# Altium schematic symbol library MAKO_SCH_LIB.SchLib: 34 symbols
Pins are listed as number, name and electrical type; pins without a type are passive.

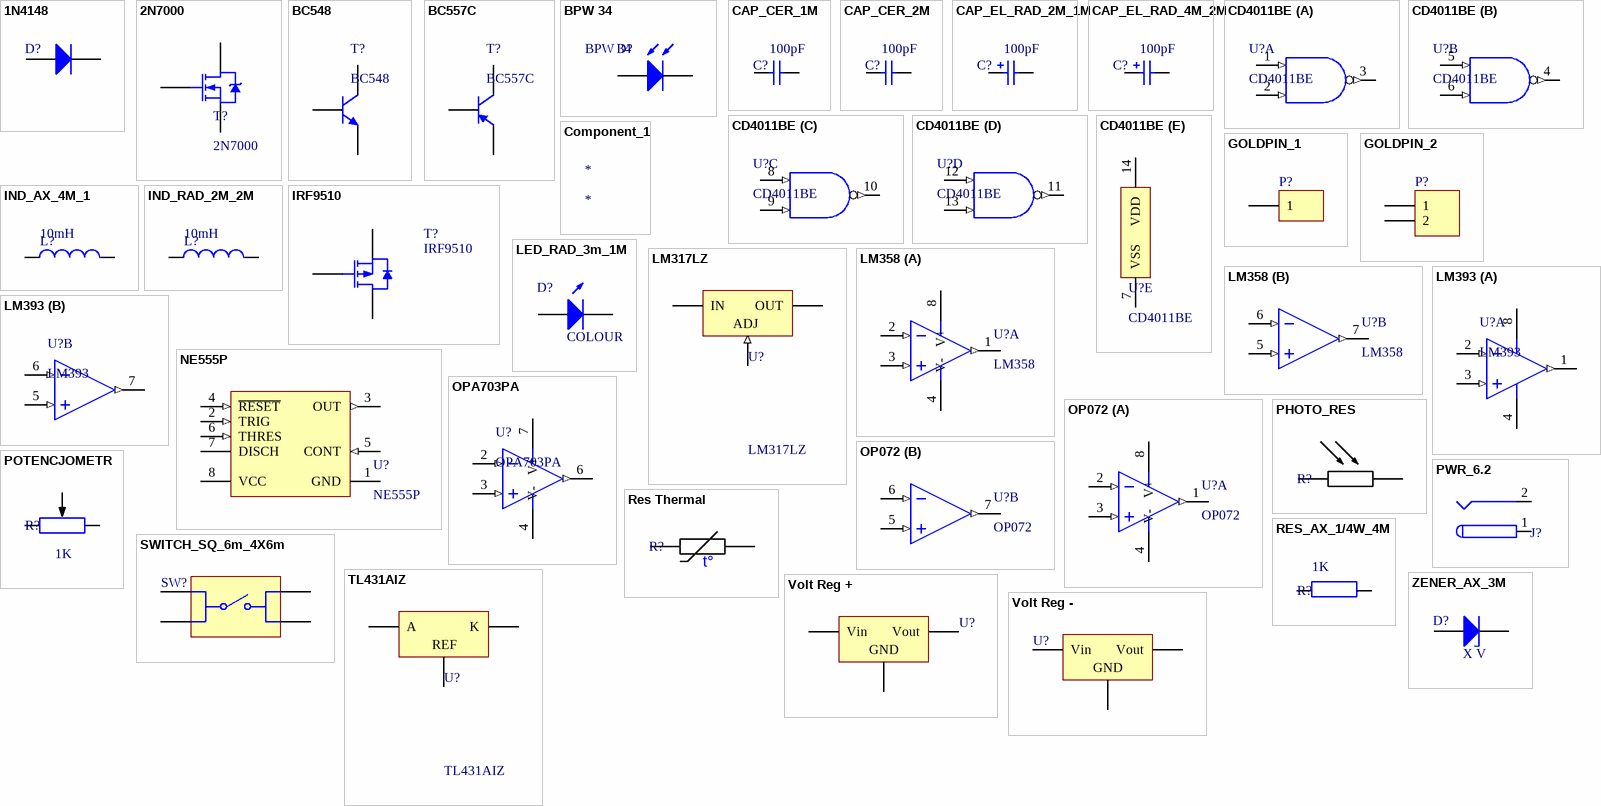
[diagram p0: symbols 1N4148 to ZENER_AX_3M]

## 1N4148
designator D?
High Conductance Fast Diode; Published: 8-Jun-2000; LatestRevisionDate: 17-Jul-2002; LatestRevisionNote: Re-released for DXP Platform.; DatasheetVersion: 1997; PackageReference: DO-35; Publisher: Altium Limited; PackageDescription: Diode, Axial; Body 3.8 x 1.9 mm (LxDia. max), Lead Dia. 0.53 mm (max); Code_JEDEC: DO-204-AH; ComponentLink1Description: Manufacturer Link; ComponentLink1URL: http://www.fairchildsemi.com/; ComponentLink2Description: Datasheet; ComponentLink2URL: http://www.fairchildsemi.com/ds/1N%2F1N4148.pdf
footprint DO-35 (Diode, Axial; Body 3.8 x 1.9 mm (LxDia. max), Lead Dia. 0.53 mm (max))
simulation model 1N4148 (DIODE)
signal-integrity model 1N4148
pins: 1 A, 2 K

## 2N7000
designator T?
Small Signal MOSFET, 200 mA, 60 V, N-Channel, 3-Pin TO-92, Bulk Box; Manufacturer: On Semiconductor; Ciss Typ (pF): 60; VGS(th) Max (V): 3; Crss Typ (pF): 5; Channel Polarity: N Channel; VGS Max (V): 20; Configuration: Single; PD Max (W): 0.35; Coss Typ (pF): 25; ID Max (A): 0.2; PackageVersion: Rev. AM; ComponentLink3URL: http://www.onsemi.cn/pub_link/Collateral/2N6426-D.PDF; ComponentLink2URL: http://www.onsemi.com/pub_link/Collateral/2N7000-D.PDF; DatasheetVersion: Rev. 8; Mounting Technology: Through Hole; V(BR)DSS Min (V): 60; PartNumber: 2N7000; PackageDescription: 3-Pin Transistor Outline, Body 4.825 x 3.685 mm, Pitch 1.27 mm; ComponentLink2Description: Datasheet; ComponentLink1URL: http://www.onsemi.com/; PackageReference: TO-92-3-29-11_AM_SL; Packing: Bulk Box; ComponentLink1Description: Manufacturer URL; Package Type: TO-92; ComponentLink3Description: Package Specification
footprint TO-92A (TO, Flat Index; 3 In-Line, Axial Leads; Body Dia. 4.5mm; Leads 0.51 x 0.48 mm (max))
pins: 1 S, 2 G, 3 D

## BC548
designator T?
Amplifier Transistor, NPN Silicon, 3-Pin TO-92, Bulk Box; Manufacturer: On Semiconductor; PartNumber: BC548B; IC Continuous (A): 0.1; fT Min (MHz): 150; Mounting Technology: Through Hole; ComponentLink3Description: Package Specification; Polarity: NPN; ComponentLink3URL: http://www.onsemi.cn/pub_link/Collateral/2N6426-D.PDF; ComponentLink2Description: Datasheet; ComponentLink1Description: Manufacturer URL; ComponentLink2URL: http://www.onsemi.com/pub_link/Collateral/BC546-D.PDF; PackageReference: TO-92-3-29-11_AM_SL; DatasheetVersion: Rev. 7; PackageDescription: 3-Pin Transistor Outline, Body 4.825 x 3.685 mm, Pitch 1.27 mm; PackageVersion: Rev. AM; Packing: Bulk Box; RoHS: FALSE; ComponentLink1URL: http://www.onsemi.com/
footprint TO-92W (TO, 3-Leads, Body Dia 4.7mm, Pitch 2.6mm)
pins: 1 C, 2 B, 3 E

## BC557C
designator T?
Amplifier Transistor, PNP Silicon, 3-Pin TO-92, Pb-Free, Bulk Box; Manufacturer: On Semiconductor; PartNumber: BC557CG; IC Continuous (A): -0.1; RoHS: TRUE; DatasheetVersion: Rev. 3; ComponentLink2Description: Datasheet; Packing: Bulk Box; PackageReference: TO-92-3-29-11_AM_SL; ComponentLink3URL: http://www.onsemi.cn/pub_link/Collateral/2N6426-D.PDF; ComponentLink2URL: http://www.onsemi.com/pub_link/Collateral/BC556B-D.PDF; PackageDescription: 3-Pin Transistor Outline, Body 4.825 x 3.685 mm, Pitch 1.27 mm; PackageVersion: Rev. AM; ComponentLink3Description: Package Specification; ComponentLink1URL: http://www.onsemi.com/; ComponentLink1Description: Manufacturer URL; Polarity: PNP; Mounting Technology: Through Hole
footprint ONSC-TO-92-3-29-11 (TO, 3-Leads, Body Dia 4.7mm, Pitch 1.27mm)
footprint TO-92W (TO, 3-Leads, Body Dia 4.7mm, Pitch 2.6mm)
pins: 1 C, 2 B, 3 E

## BPW 34
designator D?
footprint SQ_4m_2M
pins: 1 A, 2 K

## CAP_CER_1M
designator C?  value 100pF
Capacitor; Published: 8-Jun-2000; LatestRevisionDate: 17-Jul-2002; LatestRevisionNote: Re-released for DXP Platform.; PackageReference: RAD-0.3; Publisher: Altium Limited; PackageDescription: Radial Cap, Thru-Hole; 2 Leads; 0.3 in Pin Spacing
simulation model CAP (Capacitor)
signal-integrity model Cap
footprint CAP_CER_1M (Footprint not found)
pins: 1, 2

## CAP_CER_2M
designator C?  value 100pF
Capacitor; Published: 8-Jun-2000; LatestRevisionDate: 17-Jul-2002; LatestRevisionNote: Re-released for DXP Platform.; PackageReference: RAD-0.3; Publisher: Altium Limited; PackageDescription: Radial Cap, Thru-Hole; 2 Leads; 0.3 in Pin Spacing
simulation model CAP (Capacitor)
signal-integrity model Cap
footprint CAP_CER_2M (Footprint not found)
pins: 1, 2

## CAP_EL_RAD_2M_1M
designator C?  value 100pF
Polarized Capacitor (Radial); PackageDescription: Polarized Capacitor (Radial); 2 Leads
footprint CAP_RAD_2M_1M (Capacitor (Radial); 2 Leads)
pins: 1, 2
1 alternate drawing of the same symbol

## CAP_EL_RAD_4M_2M
designator C?  value 100pF
Polarized Capacitor (Radial); PackageDescription: Polarized Capacitor (Radial); 2 Leads
footprint CAP_RAD_4M_2M (Capacitor (Radial); 2 Leads)
pins: 1, 2
1 alternate drawing of the same symbol

## CD4011BE
designator U?
CMOS Quad 2-Input NAND Gate, N0014A, TUBE; Bits(#): 4; Voltage(Nom)(V): 10; Output Drive (IOL/IOH)(Max)(mA): 1.5/-1.5; ICC @ Nom Voltage(Max)(mA): 0.015; Technology Family: CD4000; VCC(Max)(V): 18; VCC(Min)(V): 3; F @ Nom Voltage(Max)(Mhz): 8; Output Type: CMOS; Input Type: CMOS; Operating Temperature Range(C): -55 to 125; Generic Part Number: CD4011B; DatasheetVersion: SCHS021D
footprint DIL14 (DIP, 14-Leads, Body 19.7x6.6mm, Pitch 2.54mm)
part A pins: 1 A (in), 2 B (in), 3 J (out)
part B pins: 4 K (out), 5 C (in), 6 D (in)
part C pins: 8 E (in), 9 F (in), 10 L (out)
part D pins: 11 M (out), 12 G (in), 13 H (in)
part E pins: 7 VSS (power), 14 VDD (power)

## Component_1
designator *

## GOLDPIN_1
designator P?
Header, 1-Pin; LatestRevisionDate: 17-Jul-2002; LatestRevisionNote: Re-released for DXP Platform.; Publisher: Altium Limited
signal-integrity model Connector
footprint HDR1X1 (Connector; Header; 1Position)
pins: 1

## GOLDPIN_2
designator P?
Header, 2-Pin; LatestRevisionDate: 17-Jul-2002; LatestRevisionNote: Re-released for DXP Platform.; Publisher: Altium Limited
footprint HDR1X2 (Connector; Header; 2 Position)
signal-integrity model Connector
pins: 1, 2

## IND_AX_4M_1
designator L?  value 10mH
Inductor
footprint AX_1/4W_4M (Axial Device, Thru-Hole; 2 Leads; 0.4 in Pin Spacing)
pins: 1, 2

## IND_RAD_2M_2M
designator L?  value 10mH
Inductor
footprint AX_1/4W_4M (Axial Device, Thru-Hole; 2 Leads; 0.4 in Pin Spacing)
pins: 1, 2

## IRF9510
designator T?
P-Channel Enhancement Mode Vertical DMOS FET,; ComponentLink3URL: http://www.diodes.com/_files/packages/E-Line.jpg; ComponentLink1URL: http://www.diodes.com/; ComponentLink1Description: Manufacturer URL; ComponentLink2Description: Datasheet; ComponentLink2URL: http://www.diodes.com/_files/datasheets/ZVP3306A.pdf; ComponentLink3Description: Package Specification
footprint TO-220AB (TO, Thru-Hole, Vertical, Heatsink Mounted; 3 In-Line Leads; Pitch 2.54 mm)
pins: 1 S, 2 D, 3 G

## LED_RAD_3m_1M
designator D?
Typical INFRARED GaAs LED; PackageDescription: LED; 2 Leads; COLOUR: COLOUR
footprint LED_RAD_3m_1M (Footprint not found)
pins: 1 A, 2 K

## LM317LZ
designator U?
3-Terminal Adjustable Regulator, 3-pin TO-92; ComponentLink1URL: http://www.national.com/ds/LM/LM317L.pdf; ComponentLink3URL: http://www.national.com/packaging/folders/z03a.html; ComponentLink2Description: LM317L Web Page; ComponentLink3Description: Z03A Package Page; ComponentLink2URL: http://www.national.com/pf/LM/LM317L.html; PackageDescription: TO-92, Molded, 3 Lead; ComponentLink1Description: LM317L Datasheet
footprint TO-92A (TO, Flat Index; 3 In-Line, Axial Leads; Body Dia. 4.5mm; Leads 0.51 x 0.48 mm (max))
pins: 1 ADJ (in), 2 OUT (power), 3 IN (power)

## LM358
designator U?
Low Power Dual Operational Amplifier, 8-pin MDIP, Pb-Free; PinCount: 8; ComponentLink1URL: http://www.ti.com/general/docs/lit/getliterature.tsp?genericPartNumber=LM358-N&fileType=pdf; ComponentLink1Description: Datasheet URL
footprint DIL8 (DIP, 8-Leads, Body 10.15x6.6mm, Pitch 2.54mm)
part A pins: 1 OUTA (out), 2 INA- (in), 3 INA+ (in), 4 V-, 8 V+
part B pins: 5 INB+ (in), 6 INB- (in), 7 OUTB (out)

## LM393
designator U?
Low Power Low Offset Voltage Dual Comparator, 8-pin MDIP; Manufacturer: Texas Instruments; CompType: Amplifiers; ComponentLink1URL: http://www.ti.com/general/docs/lit/getliterature.tsp?genericPartNumber=LM393-N&fileType=pdf; ComponentLink1Description: Datasheet URL; PinCount: 8
footprint DIL8 (DIP, 8-Leads, Body 10.15x6.6mm, Pitch 2.54mm)
part A pins: 1 OUTA (out), 2 INA- (in), 3 INA+ (in), 4 VCC, 8 GND
part B pins: 5 INB+ (in), 6 INB- (in), 7 OUTB (out)

## NE555P
designator U?
Precision Timer, 4.5 to 16 V, 0 to 70 degC, 8-Pin DIP, Pb-Free, Tube; Maximum High Level Output Current: -200mA; Number of Internal Timers: 1; Operating Supply Voltage: 5|9|12|15V; Maximum Low Level Output Current: 200mA; Manufacturer URL: http://www.ti.com/; Package Description: 8-Pin Double In-line Package, Body 9.59 x 6.35 mm, Pitch 2.54 mm; Package URL: http://www.ti.com/lit/ml/mpdi001b/mpdi001b.pdf; Datasheet URL: http://www.ti.com/general/docs/lit/getliterature.tsp?genericPartNumber=NE555&fileType=pdf
footprint DIL8 (DIP, 8-Leads, Body 10.15x6.6mm, Pitch 2.54mm)
pins: 1 GND (power), 2 TRIG (in), 3 OUT (out), 4 ~{RESET} (in), 5 CONT (in), 6 THRES (in), 7 DISCH (oc), 8 VCC (power)

## OP072
designator U?
Low Power Dual Operational Amplifier, 8-pin MDIP, Pb-Free; PinCount: 8; ComponentLink1URL: http://www.ti.com/general/docs/lit/getliterature.tsp?genericPartNumber=LM358-N&fileType=pdf; ComponentLink1Description: Datasheet URL
footprint DIL8 (DIP, 8-Leads, Body 10.15x6.6mm, Pitch 2.54mm)
part A pins: 1 OUTA (out), 2 INA- (in), 3 INA+ (in), 4 V-, 8 V+
part B pins: 5 INB+ (in), 6 INB- (in), 7 OUTB (out)

## OPA703PA
designator U?
CMOS, Rail-to-Rail I/O, Operational Amplifier, 4 to 12 V, -40 to 85 degC, 8-pin DIP (P8), Green (RoHS & no Sb/Br); GBW(Typ)(MHz): 1; IIB(Max)(pA): 10; Total Supply Voltage(Max)(+5V is 5, +/-5V is 10): 12; Total Supply Voltage(Min)(+5V is 5, +/-5V is 10): 4; Slew Rate(Typ)(V/us): 0.6; Mounting Technology: Through Hole; ComponentLink3Description: Package Specification; ComponentLink3URL: http://www.ti.com/litv/pdf/mpdi001b; ComponentLink2Description: Datasheet; ComponentLink1Description: Manufacturer URL; ComponentLink1URL: http://www.ti.com/; ComponentLink2URL: http://www.ti.com/lit/ds/symlink/opa703.pdf
footprint DIL8 (DIP, 8-Leads, Body 10.15x6.6mm, Pitch 2.54mm)
pins: 2 IN- (in), 3 IN+ (in), 4 V- (power), 6 OUT (out), 7 V+ (power)

## PHOTO_RES
designator R?
PHOTORESISTOR
footprint RAD_2M_1M
pins: 1, 2

## POTENCJOMETR
designator R?  value 1K
Resistor; Published: 8-Jun-2000; LatestRevisionDate: 17-Jul-2002; LatestRevisionNote: Re-released for DXP Platform.; PackageReference: AXIAL-0.4; Publisher: Altium Limited; PackageDescription: Axial Device, Thru-Hole; 2 Leads; 0.4 in Pin Spacing
simulation model RESISTOR (Resistor)
signal-integrity model Res
footprint SQ_4M_TR_2M (Footprint not found)
footprint SQ_4M_TR_2M (Footprint not found)
pins: 1, 2, 3

## PWR_6.2
designator J?  (value not drawn)
Low Voltage Power Supply Connector; ComponentLink1Description: Manufacturer Link; ComponentLink1URL: http://domino.kycon.com/internet/Products.html
footprint KLD-0202 (DC Power Jack, 2.5mm, KLD Series, PCB Mount)
signal-integrity model Connector
footprint PWR6.2 (Footprint not found)
footprint PWR_6.2 (Footprint not found)
pins: 1 (power), 1A (power), 1B (power), 2 (power), 2A (power), 2B (power)

## Res Thermal
designator R?
Thermistor
footprint DISC_2M_1M (Radial Cap, Thru-Hole; 2 Leads; 0.2 in Pin Spacing)
pins: 1, 2
text: t°

## RES_AX_1/4W_4M
designator R?  value 1K
Resistor; Published: 8-Jun-2000; LatestRevisionDate: 17-Jul-2002; LatestRevisionNote: Re-released for DXP Platform.; PackageReference: AXIAL-0.4; Publisher: Altium Limited; PackageDescription: Axial Device, Thru-Hole; 2 Leads; 0.4 in Pin Spacing
footprint AX_1/4W_4M (Footprint not found)
simulation model RESISTOR (Resistor)
signal-integrity model Res
pins: 1, 2

## SWITCH_SQ_6m_4X6m
designator SW?
Actuator Length: 1.5mm; Switch Function: Off-Mom; Voltage Rating: 12V; Current Rating: 50mA; Height: 4mm; Mount: Through Hole; Contact Current Rating: 50mA
footprint SQ_6m_4X6m (Footprint not found)
pins: 1, 2, 3, 4

## TL431AIZ
designator U?
Programmable Voltage Reference, 2.5 to 36V, 3-Pin TO-92; ComponentLink2URL: http://www.st.com/internet/com/TECHNICAL_RESOURCES/TECHNICAL_LITERATURE/DATASHEET/CD00000986.pdf; ComponentLink1Description: Manufacturer URL; ComponentLink1URL: http://www.st.com; ComponentLink2Description: Datasheet
footprint TO-92 (TO, Flat Index; 3 In-Line, Axial Leads; Body Dia. 4.7mm; Lead Dia. 0.56 mm (max))
footprint TO-92A (TO, Flat Index; 3 In-Line, Axial Leads; Body Dia. 4.5mm; Leads 0.51 x 0.48 mm (max))
pins: 1 REF, 2 A, 3 K

## Volt Reg +
designator U?
Voltage Regulator; VOLTAGE: X; PackageDescription: 3-Pin Transistor Outline Package 2.54 mm Pitch, 15.1 mm Lead Span
footprint TO-92A (Footprint not found)
footprint TO-220AB (TO, Thru-Hole, Vertical, Heatsink Mounted; 3 In-Line Leads; Pitch 2.54 mm)
pins: 1 GND, 2 Vin, 3 Vout

## Volt Reg -
designator U?
Voltage Regulator; VOLTAGE: X; PackageDescription: 3-Pin Transistor Outline Package 2.54 mm Pitch, 15.1 mm Lead Span
footprint TO-92A (Footprint not found)
footprint TO-220AB (TO, Thru-Hole, Vertical, Heatsink Mounted; 3 In-Line Leads; Pitch 2.54 mm)
pins: 1 GND, 2 Vin, 3 Vout

## ZENER_AX_3M
designator D?  VOLTAGE: X V
High Conductance Fast Diode; PackageReference: DO-35; PackageDescription: Diode, Axial; Body 3.8 x 1.9 mm (LxDia. max), Lead Dia. 0.53 mm (max)
footprint DO-35 (Diode, Axial; Body 3.8 x 1.9 mm (LxDia. max), Lead Dia. 0.53 mm (max))
pins: 1 A, 2 K

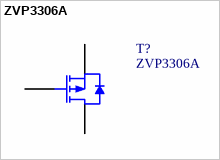
[diagram p1: symbol ZVP3306A]

## ZVP3306A
designator T?
P-Channel Enhancement Mode Vertical DMOS FET, 60 VDS, 3-Pin TO92, RoHS, Bulk; Tolerance: 1%; Voltage Rating: 75 V; Power Rating: 100 mW; Case\Package: 0603; Resistance: 470 kohm; ComponentLink3URL: http://www.diodes.com/_files/packages/E-Line.jpg; Pins: 2; Max Operating Temperature: 155 degC; ComponentLink1URL: http://www.diodes.com/; Radiation Hardening: No; Mount: Surface Mount; Width: 0.8 mm; ComponentLink1Description: Manufacturer URL; Packaging: Tape and Reel; REACH SVHC: Yes; Min Operating Temperature: -55 degC; ComponentLink2Description: Datasheet; Package Quantity: 5000; Case Code (Imperial): 0603; ComponentLink2URL: http://www.diodes.com/_files/datasheets/ZVP3306A.pdf; Length: 1.6 mm; DatasheetVersion: Rev. 2, 03/1994; Case Code (Metric): 1608; Height: 0.45 mm; RoHSCompliant: true; PackageDescription: 3-Pin Transistor Outline Package, Body Dia 4.57 mm, Pitch 1.27 mm; PackageReference: TO92-3; ComponentLink3Description: Package Specification
footprint TO-92A (TO, Flat Index; 3 In-Line, Axial Leads; Body Dia. 4.5mm; Leads 0.51 x 0.48 mm (max))
pins: 1 S, 2 G, 3 D